# Altium footprint library CI1104M1VR0NH.PcbLib: 1 footprints
Each footprint in its own frame and in the unit in brackets; x right, y up, seen from the top. Pads: shape width x height; smd on the part's side, far side on the other; paste and mask are expansions set on the pad; w line width, h text height; cw(c..) or ccw(c..) is an arc to the next point about the centre after c.
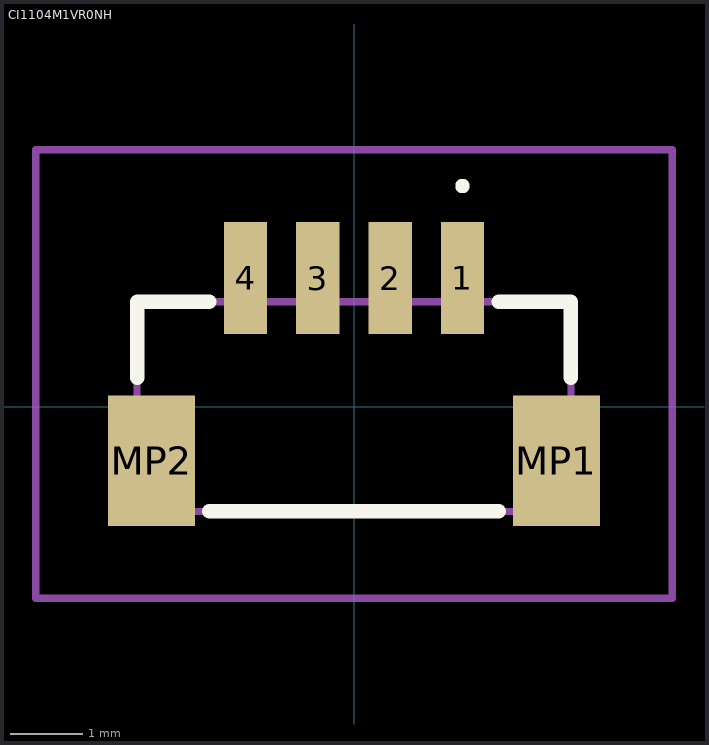
[diagram p0: the footprint, top view; thin cyan lines are the x and y axes]

## CI1104M1VR0NH [mm]
pads (6):
  rect 0.6x1.55 smd: 1(1.5,1.775) 2(0.5,1.775) 3(-0.5,1.775) 4(-1.5,1.775)
  rect 1.2x1.8 smd: MP1(2.8,-0.75) MP2(-2.8,-0.75)
Top Overlay:
  lines w0.1: 1.5,3 cw(c1.5,3.05) 1.5,3.1 ; 1.5,3 1.5,3 ; 1.5,3 ccw(c1.5,3.05) 1.5,3.1 ; 1.5,3.1 1.5,3.1
  lines w0.2: -3,0.4 -3,1.45 -2,1.45 ; -2,-1.45 2,-1.45 ; 2,1.45 3,1.45 3,0.4
Mechanical 15:
  lines w0.1: -3,-1.45 3,-1.45 3,1.45 -3,1.45 -3,-1.45
Mechanical 20:
  lines w0.1: -4.4,-2.65 4.4,-2.65 4.4,3.55 -4.4,3.55 -4.4,-2.65